# EAGLE library part PINHEAD_PINHD-1X6 (library usbpropicprog-v2)
PIN HEADER
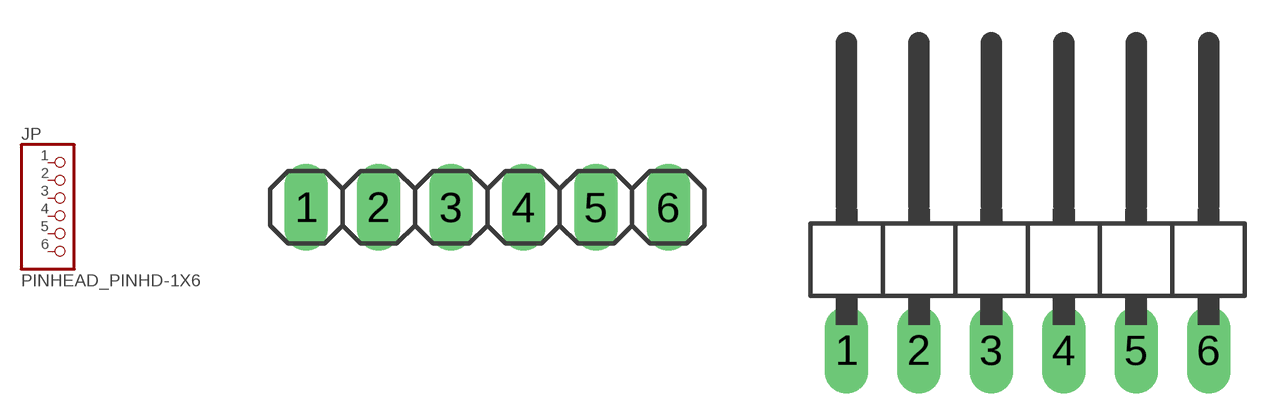
[diagram p3: symbol with the pads of PINHEAD_1X06; footprints PINHEAD_1X06, PINHEAD_1X06/90]

Designator prefix JP

## PINHEAD_PINHD-1X6  [PINHEAD_1X06]
1  1  pas
2  2  pas
3  3  pas
4  4  pas
5  5  pas
6  6  pas

## PINHEAD_PINHD-1X6/90  [PINHEAD_1X06/90]
Pads as for PINHEAD_1X06

## Footprint PINHEAD_1X06 (pad centres in mm)
PIN HEADER
drill 1.016 long: 1 -6.35,0; 2 -3.81,0; 3 -1.27,0; 4 1.27,0; 5 3.81,0; 6 6.35,0

## Footprint PINHEAD_1X06/90 (pad centres in mm)
PIN HEADER
drill 1.016 long: 1 -6.35,-3.81; 2 -3.81,-3.81; 3 -1.27,-3.81; 4 1.27,-3.81; 5 3.81,-3.81; 6 6.35,-3.81